# Altium schematic symbol library accessPoint.SchLib: 20 symbols
Pins are listed as number, name and electrical type; pins without a type are passive.

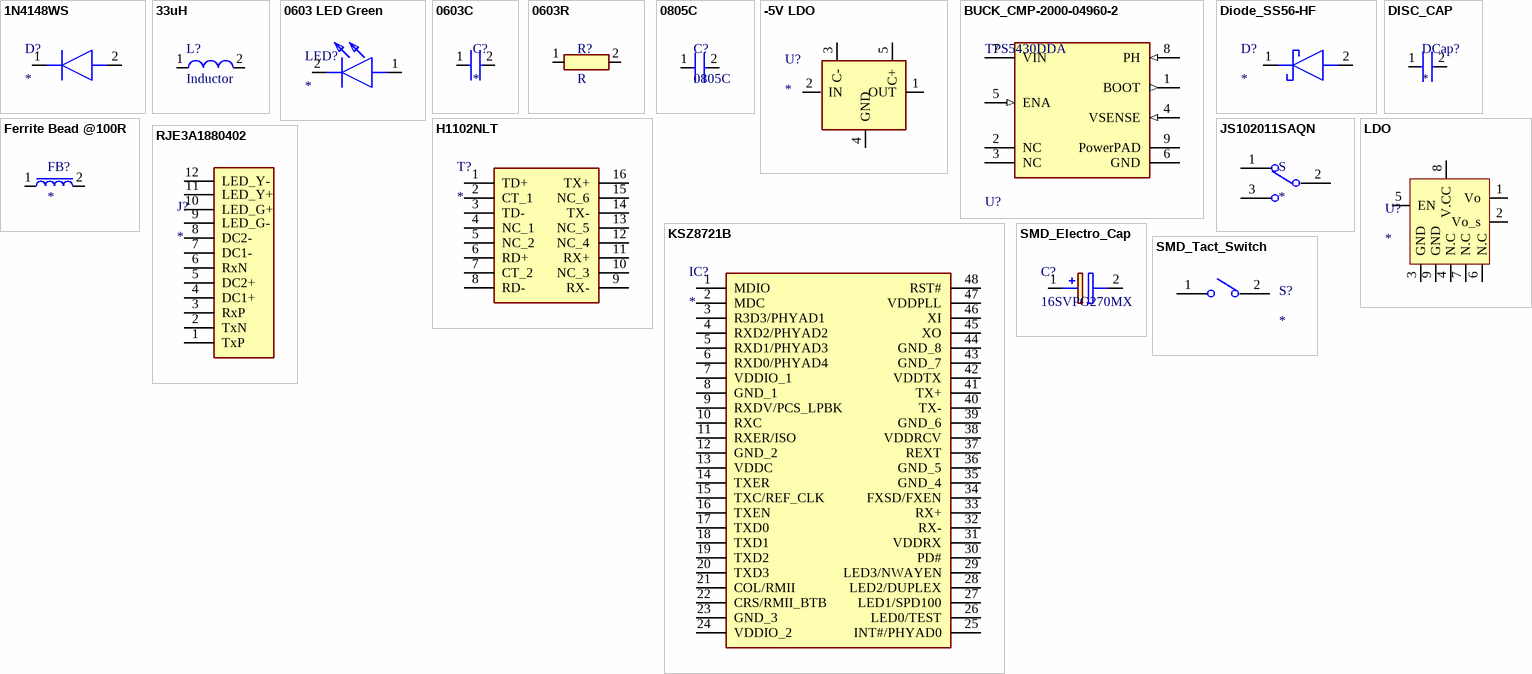
[diagram p0: symbols 1N4148WS to SMD_Tact_Switch]

## 1N4148WS
designator D?
Diode; Manufacturer_Name: onsemi; Manufacturer_Part_Number: 1N4148WS; Description: ON Semiconductor Switching Diode; Height: 0.9mm; Mouser Part Number: 512-1N4148WS; Mouser Price/Stock: https://www.mouser.co.uk/ProductDetail/onsemi-Fairchild/1N4148WS?qs=2%2FYqgE%252BHg%252BKBrKZlAsMLhw%3D%3D; Arrow Part Number: 1N4148WS; Arrow Price/Stock: https://www.arrow.com/en/products/1n4148ws/on-semiconductor?region=europe
footprint SODFL2512X90N
pins: 1 K, 2 A

## 33uH
designator L?, comment Inductor
Inductor Power Shielded Wirewound 470uH 10% 1KHz 18Q-Factor Ferrite 0.18A 3.3Ohm DCR T/R; Manufacturer: Bourns; Manufacturer Part Number: SRR0604-471KL; Saturation Current: 220mA; Self Resonant Frequency: 6.5MHz; Q Factor: 18; Current Rating: 180mA; Current: 2.2A; DC Resistance (DCR): 3.3R; Supplier 1: Mouser; RoHS: Yes; Category: Fixed Inductors; Stock 1: 1611; Pricing 1: 1=0.93000, 10=0.67800, 50=0.67800, 100=0.62800, 1000=0.41200, 10000=0.38700 (USD); Mount: Surface Mount; Case/Package: Nonstandard; Core Material: Ferrite; Min Operating Temperature: -40°C; Max Operating Temperature: 125°C; Tolerance: 10%; Shielding: Shielded; Packaging: Tape and Reel; Package Quantity: 1000; Inductance: 470uH; Resistor Type: Wirewound; Test Frequency: 1kHz; Max DC Current: 180mA; Termination: SMD/SMT; DC Current: 180mA; Length: 6.5mm; Width: 6.5mm; Height: 4.8mm; Height - Seated (Max): 0.189inch; Depth: 6.7mm; Radiation Hardening: No; Military Standard: Not; ComponentLink1URL: https://datasheet.ciiva.com/29348/447222-da-01-en-induktivitaet-srr0604-471kl-470uh-0-22a-29348188.pdf?src-supplier=Conrad; ComponentLink1Description: https://datasheet.ciiva.com/29348/447222-da-01-en-induktivitaet-srr0604-471kl-470uh-0-22a-29348188.pdf?src-supplier=Conrad; ComponentLink2URL: https://datasheet.ciiva.com/6691/srr0604-6691703.pdf?src-supplier=Digi-Key; ComponentLink2Description: https://datasheet.ciiva.com/6691/srr0604-6691703.pdf?src-supplier=Digi-Key; ComponentLink3URL: https://datasheet.ciiva.com/6691/srr0604-6691705.pdf?src-supplier=Digi-Key; ComponentLink3Description: https://datasheet.ciiva.com/6691/srr0604-6691705.pdf?src-supplier=Digi-Key; ComponentLink4URL: https://datasheet.ciiva.com/6691/srr0604-6691708.pdf?src-supplier=Digi-Key; ComponentLink4Description: https://datasheet.ciiva.com/6691/srr0604-6691708.pdf?src-supplier=Digi-Key; ComponentLink5URL: https://datasheet.ciiva.com/8517/srr0604-8517198.pdf?src-supplier=Avnet; ComponentLink5Description: https://datasheet.ciiva.com/8517/srr0604-8517198.pdf?src-supplier=Avnet; ComponentLink6URL: https://datasheet.ciiva.com/31843/srr0604-31843470.pdf?src-supplier=Onlinecomponents.com; ComponentLink6Description: https://datasheet.ciiva.com/31843/srr0604-31843470.pdf?src-supplier=Onlinecomponents.com
footprint INDP120120X80N (Precision Wire Wound Inductor, 2-Leads, Body 12.00x12.00mm, IPC Medium Density)
pins: 1, 2

## 0603 LED Green
designator LED?
LED; Manufacturer_Name: Wurth Elektronik; Manufacturer_Part_Number: 150060VS75003; Datasheet Link: https://www.we-online.com/catalog/datasheet/150060VS75003.pdf; Height: 0.8mm; Mouser Part Number: 710-150060VS75003; Mouser Price/Stock: https://www.mouser.co.uk/ProductDetail/Wurth-Elektronik/150060VS75003?qs=Li%252BoUPsLEnv2ZkbQUMi3uQ%3D%3D
footprint 0603 LED
pins: 1 A, 2 K

## 0603C
designator C?
footprint 0603
pins: 1, 2

## 0603R
designator R?, comment R
footprint 0603
pins: 1, 2

## 0805C
designator C?
footprint 0805C
pins: 1, 2

## -5V LDO
designator U?
Integrated Circuit; Manufacturer_Name: Texas Instruments; Manufacturer_Part_Number: TPS60400DBVR; Datasheet Link: http://www.ti.com/general/docs/suppproductinfo.tsp?distId=10&gotoUrl=http%3A%2F%2Fwww.ti.com%2Flit%2Fgpn%2Ftps60400; Height: 1.45mm; Mouser Part Number: 595-TPS60400DBVR; Mouser Price/Stock: https://www.mouser.co.uk/ProductDetail/Texas-Instruments/TPS60400DBVR?qs=Gse6rAGbi7%2F9%252BEuIQ%2FZFVA%3D%3D; Arrow Part Number: TPS60400DBVR; Arrow Price/Stock: https://www.arrow.com/en/products/tps60400dbvr/texas-instruments?region=nac
footprint -5v_TPS60400DBVR
pins: 1 OUT, 2 IN, 3 C-, 4 GND, 5 C+

## BUCK_CMP-2000-04960-2
designator U?, comment TPS5430DDA
IC REG BUCK ADJUSTABLE 3A 8SOPWR; Manufacturer: Texas Instruments; Max Junction Temp: +125°C; Max Supply Voltage: 36V; Switching Frequency: 500kHz; Output Type: AdjustableProgrammable; Standoff Height: 0mm; Output Voltage: 1.23-31V; Max Duty Cycle: 89%; Nominal Supply Current: 3mA; Min Supply Voltage: 5.5V; Number Of Outputs: 1; Temperature: -40°C to +125°C; Temperature Range High: +125°C; Manufacturer Part Number: TPS5430DDA; Device Class L3: Voltage Regulators - Switching; Mouser Description: Voltage Regulators - Switching Regulators 5.5 to 36V Input 3A Step Dwn Converter; Switching Topology: Buck; ComponentLink2URL: http://www.ti.com/lit/ds/symlink/tps5431.pdf; ComponentLink2Description: Datasheet; Device Class L2: Power Management ICs; Device Class L1: Integrated Circuits (ICs); Digikey Description: IC REG BUCK ADJUSTABLE 3A 8SOPWR; RoHS: TRUE; Octopart: https://octopart.com/tps5430dda-texas+instruments-589977; Output Current: 3A; Automotive: No; Lead Free: Yes; Category: IC; Package: DDA0008J; Temperature Range Low: -40°C; Height: 1.7mm
footprint FP-DDA0008J-IPC_A
pins: 1 BOOT (out), 2 NC, 3 NC, 4 VSENSE (in), 5 ENA (in), 6 GND (power), 7 VIN (power), 8 PH (in), 9 PowerPAD (power)

## Diode_SS56-HF
designator D?
Schottky Diode; Manufacturer_Name: Comchip Technology; Manufacturer_Part_Number: SS56-HF; Datasheet Link: https://www.comchiptech.com/admin/files/product/20190806165140.pdf; Height: 2.2mm; Mouser Part Number: 750-SS56-HF; Mouser Price/Stock: https://www.mouser.co.uk/ProductDetail/Comchip-Technology/SS56-HF?qs=GBLSl2AkirtOTzRAa07LTg%3D%3D; Arrow Part Number: SS56-HF; Arrow Price/Stock: https://www.arrow.com/en/products/ss56-hf/comchip-technology
footprint DIOM5025X220N
pins: 1 K, 2 A

## DISC_CAP
designator DCap?
footprint DISC_CAP
pins: 1, 2

## Ferrite Bead @100R
designator FB?
Ferrite Bead; Manufacturer_Name: KEMET; Manufacturer_Part_Number: Z0603C101BPWZT; Datasheet Link: https://api.kemet.com/component-edge/download/datasheet/Z0603C101BPWZT.pdf; Height: 0.9mm; Mouser Part Number: 80-Z0603C101BPWZT; Mouser Price/Stock: https://www.mouser.co.uk/ProductDetail/KEMET/Z0603C101BPWZT?qs=BYlwlsDsB%2FqttfRwYpxQxg%3D%3D; Arrow Part Number: Z0603C101BPWZT; Arrow Price/Stock: https://www.arrow.com/en/products/z0603c101bpwzt/kemet-corporation
footprint BEADC1608X90N
pins: 1, 2

## H1102NLT
designator T?
Transformer; Manufacturer_Name: Pulse; Manufacturer_Part_Number: H1102NLT; Datasheet Link: https://productfinder.pulseeng.com/products/datasheets/H1102NL.pdf; Height: 6.22mm; Mouser Part Number: 673-H1102NLT; Mouser Price/Stock: https://www.mouser.co.uk/ProductDetail/Pulse-Electronics/H1102NLT?qs=EKu32SdDin8JhhqpR7K10Q%3D%3D; Arrow Part Number: H1102NLT; Arrow Price/Stock: https://www.arrow.com/en/products/h1102nlt/pulse-electronics-corporation?region=europe
footprint SOIC127P940X622-16N
pins: 1 TD+, 2 CT_1, 3 TD-, 4 NC_1, 5 NC_2, 6 RD+, 7 CT_2, 8 RD-, 9 RX-, 10 NC_3, 11 RX+, 12 NC_4, 13 NC_5, 14 TX-, 15 NC_6, 16 TX+

## JS102011SAQN
designator S
Slide Switch SPDT Surface Mount, Right Angle; MF: C&K; MP: JS102011SAQN; Availability: Unavailable; Price: None; SnapEDA_Link: https://www.snapeda.com/parts/JS102011SAQN/C%26K/view-part/214325/?ref=snap; Value: *; Package: None
footprint SW_JS102011SAQN
pins: 1, 2, 3

## KSZ8721B
designator IC?
Integrated Circuit; Manufacturer_Name: Microchip; Manufacturer_Part_Number: KSZ8721B; Datasheet Link: https://componentsearchengine.com/Datasheets/2/KSZ8721B.pdf; Height: 2.794mm; Arrow Part Number: KSZ8721B; Arrow Price/Stock: https://www.arrow.com/en/products/ksz8721b/microchip-technology
footprint ETH_PHY_SOP64P1031X279-48N
pins: 1 MDIO, 2 MDC, 3 R3D3/PHYAD1, 4 RXD2/PHYAD2, 5 RXD1/PHYAD3, 6 RXD0/PHYAD4, 7 VDDIO_1, 8 GND_1, 9 RXDV/PCS_LPBK, 10 RXC, 11 RXER/ISO, 12 GND_2, 13 VDDC, 14 TXER, 15 TXC/REF_CLK, 16 TXEN, 17 TXD0, 18 TXD1, 19 TXD2, 20 TXD3, 21 COL/RMII, 22 CRS/RMII_BTB, 23 GND_3, 24 VDDIO_2, 25 INT#/PHYAD0, 26 LED0/TEST, 27 LED1/SPD100, 28 LED2/DUPLEX, 29 LED3/NWAYEN, 30 PD#, 31 VDDRX, 32 RX-, 33 RX+, 34 FXSD/FXEN, 35 GND_4, 36 GND_5, 37 REXT, 38 VDDRCV, 39 GND_6, 40 TX-, 41 TX+, 42 VDDTX, 43 GND_7, 44 GND_8, 45 XO, 46 XI, 47 VDDPLL, 48 RST#

## LDO
designator U?
IC REG LDO ADJ 0.3A 8VSON; Manufacturer: Rohm; Manufacturer Part Number: BD00GA3WNUX-TR; Number of Outputs: 1; Min Input Voltage: 4.5V; Max Input Voltage: 14V; Max Output Current: 300mA; Output Voltage: 13V; Max Power Dissipation: 2.11W; Dropout Voltage: 450mV; Reference Voltage: 800mV; Input Bias Current: 600uA; Output Type: Adjustable; Supplier 1: Mouser; RoHS: Yes; Category: Voltage Regulators - Linear; Stock 1: 2744; Pricing 1: 1=0.73000, 10=0.64100, 50=0.64100, 100=0.49100, 1000=0.31100, 10000=0.25600 (USD); Mount: Surface Mount; Min Operating Temperature: -25°C; Max Operating Temperature: 85°C; Packaging: Tape and Reel; Package Quantity: 4000; Output Current: 300mA; Number of Regulators: 1; Lead Free: Lead Free; RoHS Compliant: Yes; ComponentLink1URL: https://datasheet.ciiva.com/29570/bdxxga3wefj-e-29570298.pdf?src-supplier=Digi-Key; ComponentLink1Description: https://datasheet.ciiva.com/29570/bdxxga3wefj-e-29570298.pdf?src-supplier=Digi-Key; ComponentLink2URL: https://datasheet.ciiva.com/29570/bdxxga3wefj-e-29570299.pdf?src-supplier=Digi-Key; ComponentLink2Description: https://datasheet.ciiva.com/29570/bdxxga3wefj-e-29570299.pdf?src-supplier=Digi-Key; ComponentLink3URL: https://datasheet.ciiva.com/29570/bdxxga3wefj-e-29570297.pdf?src-supplier=Digi-Key; ComponentLink3Description: https://datasheet.ciiva.com/29570/bdxxga3wefj-e-29570297.pdf?src-supplier=Digi-Key
footprint LDO (SON, 8-Leads, Body 2.00x3.00mm, Pitch 0.50mm, Thermal Pad 1.50x1.40mm, IPC Medium Density)
pins: 1 Vo, 2 Vo_s, 3 GND, 4 N.C, 5 EN, 6 N.C, 7 N.C, 8 V.CC, 9 GND

## RJE3A1880402
designator J?
Connector; Manufacturer_Name: Amphenol; Manufacturer_Part_Number: RJE3A1880402; Datasheet Link: https://cdn.amphenol-cs.com/media/wysiwyg/files/drawing/p-rje3a-188-0x02.pdf; Height: 13.45mm; Mouser Part Number: 523-RJE3A1880402; Mouser Price/Stock: https://www.mouser.co.uk/ProductDetail/Amphenol-Commercial-Products/RJE3A1880402?qs=A6eO%252BMLsxmR2xBkF5o8M4A%3D%3D
footprint RJE3A1880402
pins: 1 TxP, 2 TxN, 3 RxP, 4 DC1+, 5 DC2+, 6 RxN, 7 DC1-, 8 DC2-, 9 LED_G-, 10 LED_G+, 11 LED_Y+, 12 LED_Y-

## SMD_Electro_Cap
designator C?, comment 16SVPG270MX
Capacitor Polarised; Manufacturer_Name: Panasonic; Datasheet Link: http://industrial.panasonic.com/cdbs/www-data/pdf/AAB8000/AAB8000C175.pdf; Height: 8mm; Manufacturer_Part_Number: 16SVPG270MX; Mouser Part Number: 667-16SVPG270MX; Mouser Price/Stock: https://www.mouser.co.uk/ProductDetail/Panasonic/16SVPG270MX?qs=XFmntM7Yc9fZM%2FbqBr2Fvw%3D%3D; Arrow Part Number: 16SVPG270MX; Arrow Price/Stock: https://www.arrow.com/en/products/16svpg270mx/panasonic?region=nac
footprint SMD_Electro_Cap
pins: 1 +, 2 -

## SMD_Tact_Switch
designator S?
SMD Tactile Switch, 3x6x2.5mm
footprint SMD_Tact_Switch
pins: 1, 2

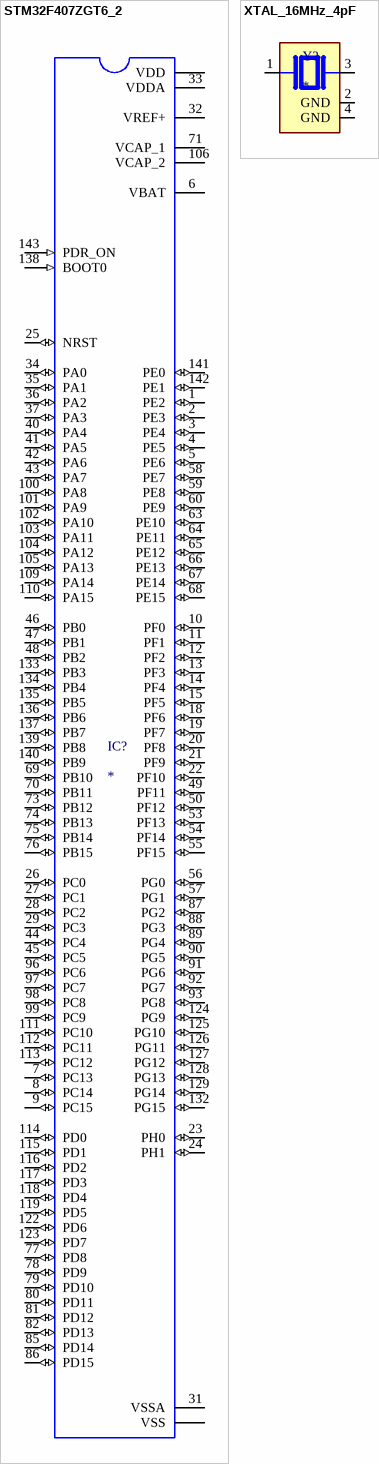
[diagram p1: symbols STM32F407ZGT6_2 to XTAL_16MHz_4pF]

## STM32F407ZGT6_2
designator IC?
MCU 32-bit STM32F ARM Cortex M4F RISC 1024KB Flash 2.5V/3.3V 144-Pin LQFP Tray; MF: {'manufacturer': u'STMicroelectronics'}; MP: STM32F407ZGT6; Price: None; Package: None; Availability: Unavailable; Value: *
footprint MCU_STM32F407ZGT6
pins: 1 PE2 (io), 2 PE3 (io), 3 PE4 (io), 4 PE5 (io), 5 PE6 (io), 6 VBAT (power), 7 PC13 (io), 8 PC14 (io), 9 PC15 (io), 10 PF0 (io), 11 PF1 (io), 12 PF2 (io), 13 PF3 (io), 14 PF4 (io), 15 PF5 (io), 16 VSS, 17 VDD (power), 18 PF6 (io), 19 PF7 (io), 20 PF8 (io), 21 PF9 (io), 22 PF10 (io), 23 PH0 (io), 24 PH1 (io), 25 NRST (io), 26 PC0 (io), 27 PC1 (io), 28 PC2 (io), 29 PC3 (io), 30 VDD (power), 31 VSSA, 32 VREF+ (power), 33 VDDA (power), 34 PA0 (io), 35 PA1 (io), 36 PA2 (io), 37 PA3 (io), 38 VSS, 39 VDD (power), 40 PA4 (io), 41 PA5 (io), 42 PA6 (io), 43 PA7 (io), 44 PC4 (io), 45 PC5 (io), 46 PB0 (io), 47 PB1 (io), 48 PB2 (io), 49 PF11 (io), 50 PF12 (io), 51 VSS, 52 VDD (power), 53 PF13 (io), 54 PF14 (io), 55 PF15 (io), 56 PG0 (io), 57 PG1 (io), 58 PE7 (io), 59 PE8 (io), 60 PE9 (io), 61 VSS, 62 VDD (power), 63 PE10 (io), 64 PE11 (io), 65 PE12 (io), 66 PE13 (io), 67 PE14 (io), 68 PE15 (io), 69 PB10 (io), 70 PB11 (io), 71 VCAP_1 (power), 72 VDD (power), 73 PB12 (io), 74 PB13 (io), 75 PB14 (io), 76 PB15 (io), 77 PD8 (io), 78 PD9 (io), 79 PD10 (io), 80 PD11 (io), 81 PD12 (io), 82 PD13 (io), 83 VSS, 84 VDD (power), 85 PD14 (io), 86 PD15 (io), 87 PG2 (io), 88 PG3 (io), 89 PG4 (io), 90 PG5 (io), 91 PG6 (io), 92 PG7 (io), 93 PG8 (io), 94 VSS, 95 VDD (power), 96 PC6 (io), 97 PC7 (io), 98 PC8 (io), 99 PC9 (io), 100 PA8 (io), 101 PA9 (io), 102 PA10 (io), 103 PA11 (io), 104 PA12 (io), 105 PA13 (io), 106 VCAP_2 (power), 107 VSS, 108 VDD (power), 109 PA14 (io), 110 PA15 (io), 111 PC10 (io), 112 PC11 (io), 113 PC12 (io), 114 PD0 (io), 115 PD1 (io), 116 PD2 (io), 117 PD3 (io), 118 PD4 (io), 119 PD5 (io), 120 VSS, 121 VDD (power), 122 PD6 (io), 123 PD7 (io), 124 PG9 (io), 125 PG10 (io), 126 PG11 (io), 127 PG12 (io), 128 PG13 (io), 129 PG14 (io), 130 VSS, 131 VDD (power), 132 PG15 (io), 133 PB3 (io), 134 PB4 (io), 135 PB5 (io), 136 PB6 (io), 137 PB7 (io), 138 BOOT0 (in), 139 PB8 (io), 140 PB9 (io), 141 PE0 (io), 142 PE1 (io), 143 PDR_ON (in), 144 VDD (power)

## XTAL_16MHz_4pF
designator Y?
ABM10W-16.0000MHZ-4-D1X-T3; MF: {'manufacturer': u'Abracon LLC'}; Availability: Unavailable; Price: None; MP: ABM10W-16.0000MHZ-4-D1X-T3; Package: None; Value: *
footprint XTAL_16.0000MHZ_4PF
pins: 1, 2 GND (power), 3 2, 4 GND (power)